# EAGLE library part CORTEX_DEBUG (library PinHD1X3)
Cortex Debug Connector - 10 pin Supports JTAG debug, Serial Wire debug, and Serial Wire Viewer. PTH and SMD connector options available. General Connector Information <http://infocenter.arm.com/help/topic/com.arm.doc.faqs/attached/13634/cortex_debug_connectors.pdf> Products: PTH Connector <http://www.digikey.com/product-detail/en/cnc-tech/3220-10-0100-00/1175-1627-ND/3883661> -via Digi-Key SparkFun PSoc <https://www.sparkfun.com/products/13229> SparkFun T <https://www.sparkfun.com/products/13810>
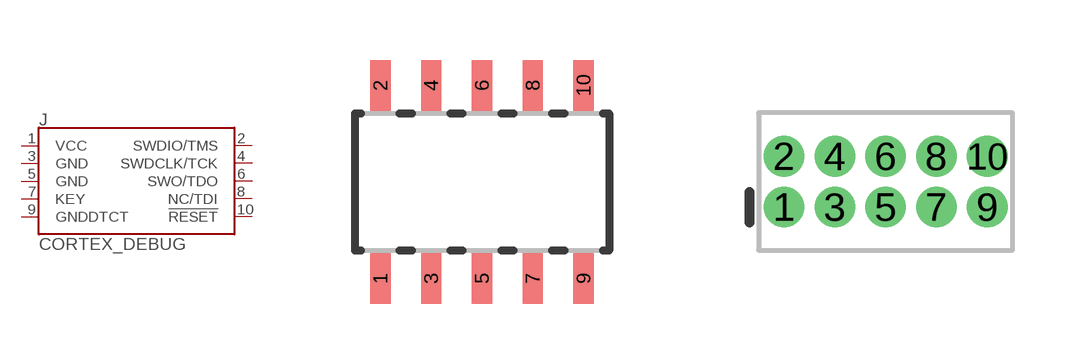
[diagram p53: symbol with the pads of SAMTECH_FTSH-105-01; footprints SAMTECH_FTSH-105-01, 2X5-PTH-1.27MM]

Designator prefix J

## CORTEX_DEBUG_SMD  [SAMTECH_FTSH-105-01]
1  VCC
2  SWDIO/TMS
3  GND
4  SWDCLK/TCK
5  GND
6  SWO/TDO
7  KEY
8  NC/TDI
9  GNDDTCT
10  !RESET

## CORTEX_DEBUG_PTH  [2X5-PTH-1.27MM]
Pads as for SAMTECH_FTSH-105-01

## Footprint SAMTECH_FTSH-105-01 (pad centres in mm)
ARM Cortex Debug Connector (10-pin) Specifications: Pin count:10 Pin pitch:0.05" Datasheet referenced for footprint <https://www.samtec.com/ftppub/cpdf/FTSH-1XX-XX-XXX-DV-XXX-MKT.pdf> Example device(s): CORTEX_DEBUG
smd 0.508 x 1.27: 1 -2.54,-2.413; 2 -2.54,2.413; 3 -1.27,-2.413; 4 -1.27,2.413; 5 0,-2.413; 6 0,2.413; 7 1.27,-2.413; 8 1.27,2.413; 9 2.54,-2.413; 10 2.54,2.413

## Footprint 2X5-PTH-1.27MM (pad centres in mm)
Plated Through Hole - 2x5 ARM Cortex Debug Connector (10-pin) tDoc (51) layer border represents maximum dimensions of plastic housing. Specifications: Pin count:10 Pin pitch:1.27mm Datasheet referenced for footprint <http://portal.fciconnect.com/Comergent//fci/drawing/20021111.pdf> Example device(s): CONN_05x2
drill 0.508 pad 1: 1 -2.54,-0.635; 2 -2.54,0.635; 3 -1.27,-0.635; 4 -1.27,0.635; 5 0,-0.635; 6 0,0.635; 7 1.27,-0.635; 8 1.27,0.635; 9 2.54,-0.635; 10 2.54,0.635